# Altium integrated library NXP_60_26022015.IntLib: 1306 symbols (part 4 of 28)
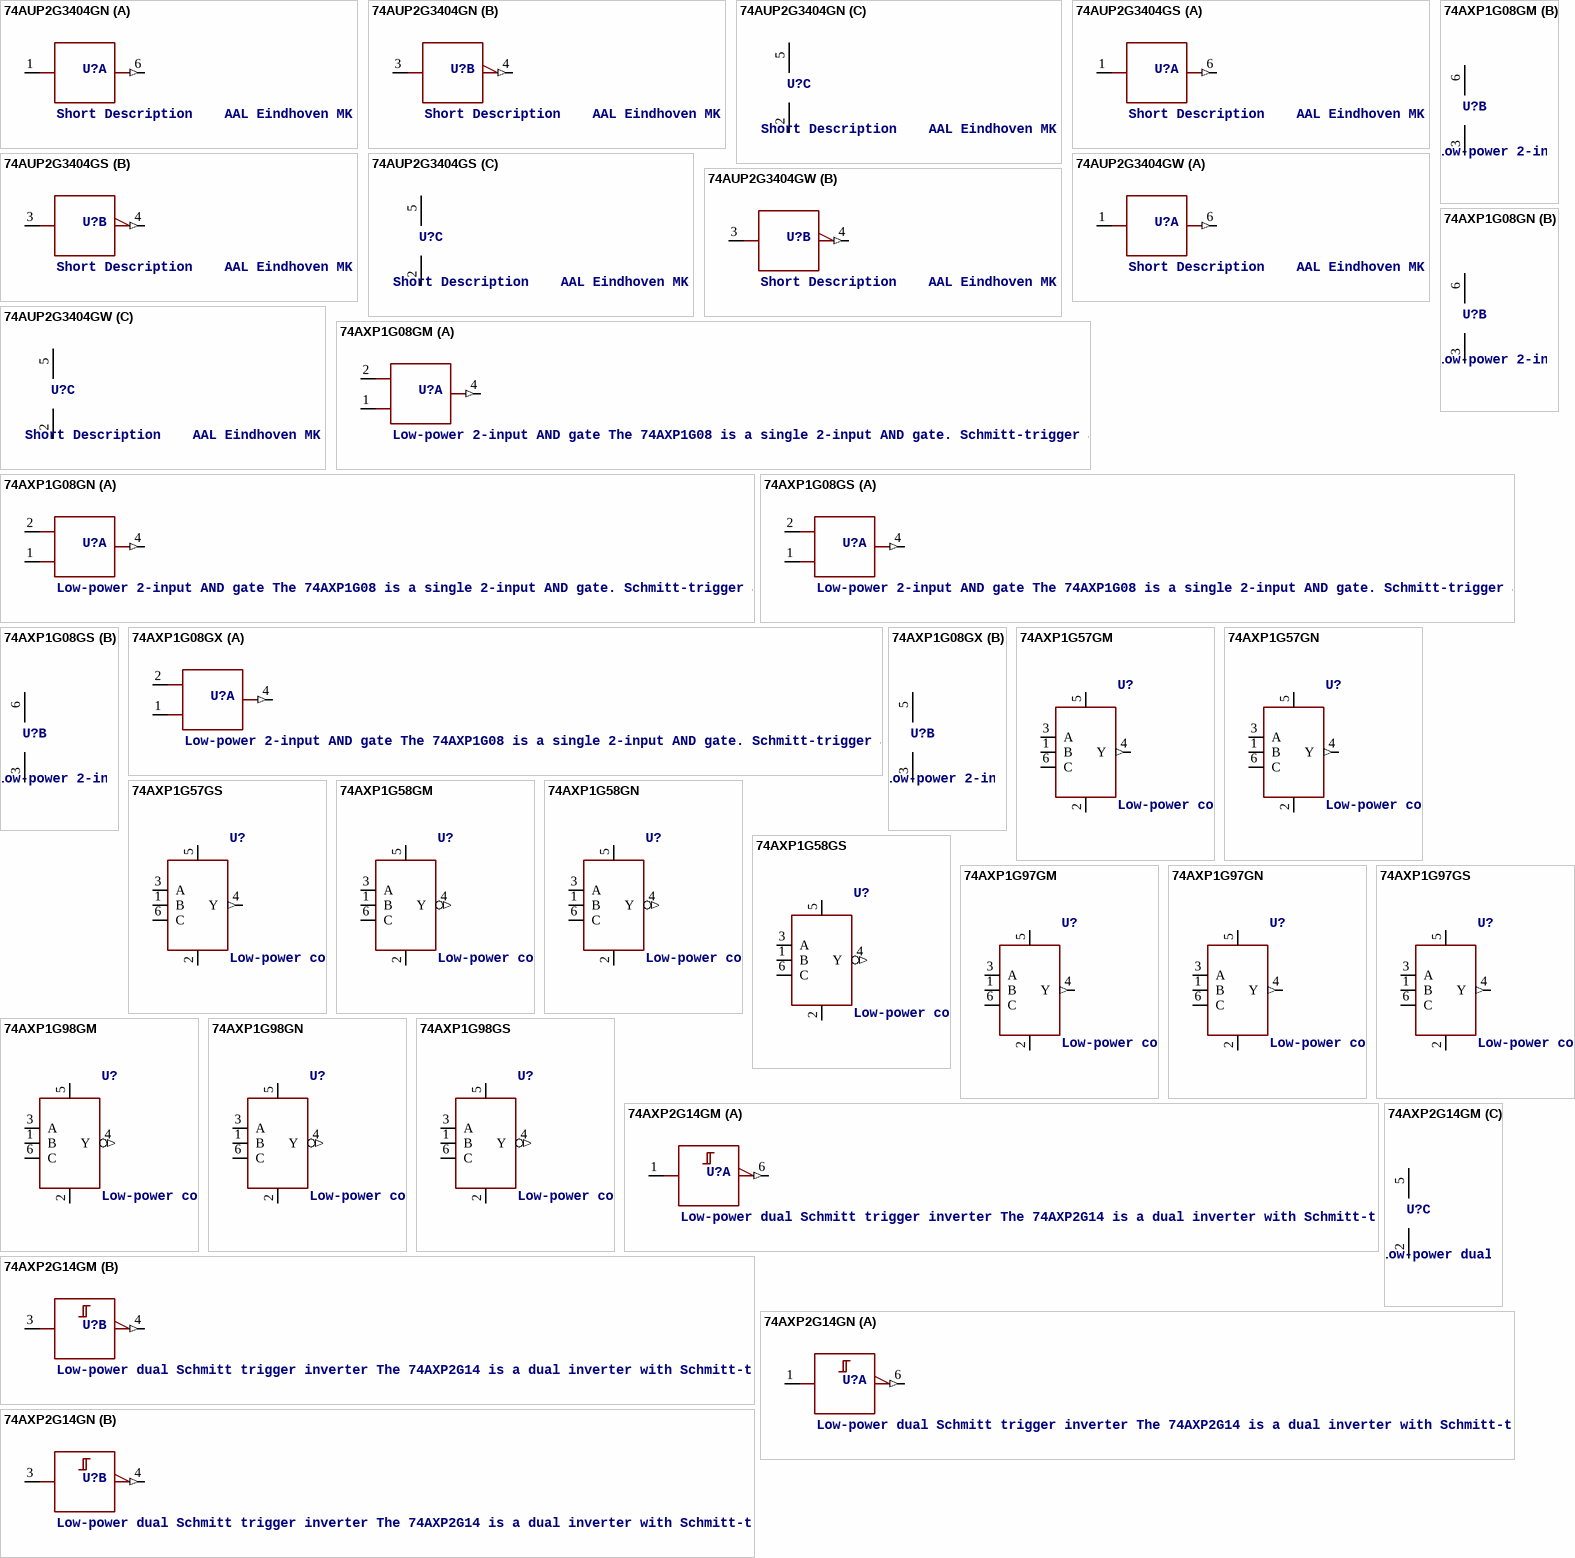
[diagram p188: symbols 74AUP2G3404GN to 74AXP2G14GN]

## 74AXP1G57GS
designator U?, comment Low-power configurable gate with voltage-level translator The 74AXP1G57 is a configurable multiple function gate with Schmitt-trigger inputs. The device can be configured as any of the following logic functions AND, OR, NAND, NOR, XNOR, inverter and buffer. All inputs can be connected directly to VCC or GND. This device ensures very low static and dynamic power consumption across the entire VCC range from 0.7 V to 2.75 V. This device is fully specified for partial power down applications using IOFF. The IOFF circuitry disables the output, preventing the potentially damaging backflow current through the device when it is powered down.   AAL Eindhoven MK
footprint SOT1202
pins: 1 B, 2 GND (power), 3 A, 4 Y (out), 5 VCC (power), 6 C

## 74AXP1G58GM
designator U?, comment Low-power configurable multiple function gate The 74AXP1G58 is a configurable multiple function gate with Schmitt-trigger inputs. The device can be configured as any of the following logic functions AND, OR, NAND, NOR, XOR, inverter and buffer. All inputs can be connected directly to VCC or GND. This device ensures very low static and dynamic power consumption across the entire VCC range from 0.7 V to 2.75 V. This device is fully specified for partial power-down applications using IOFF. The IOFF circuitry disables the output, preventing the potentially damaging backflow current through the device when it is powered down.   AAL Eindhoven MK
12NC: 9353 015 99125
footprint SOT886
pins: 1 B, 2 GND (power), 3 A, 4 Y (out), 5 VCC (power), 6 C

## 74AXP1G58GN
designator U?, comment Low-power configurable multiple function gate The 74AXP1G58 is a configurable multiple function gate with Schmitt-trigger inputs. The device can be configured as any of the following logic functions AND, OR, NAND, NOR, XOR, inverter and buffer. All inputs can be connected directly to VCC or GND. This device ensures very low static and dynamic power consumption across the entire VCC range from 0.7 V to 2.75 V. This device is fully specified for partial power-down applications using IOFF. The IOFF circuitry disables the output, preventing the potentially damaging backflow current through the device when it is powered down.   AAL Eindhoven MK
I2C: 9353 016 01125
footprint SOT1115
pins: 1 B, 2 GND (power), 3 A, 4 Y (out), 5 VCC (power), 6 C

## 74AXP1G58GS
designator U?, comment Low-power configurable multiple function gate The 74AXP1G58 is a configurable multiple function gate with Schmitt-trigger inputs. The device can be configured as any of the following logic functions AND, OR, NAND, NOR, XOR, inverter and buffer. All inputs can be connected directly to VCC or GND. This device ensures very low static and dynamic power consumption across the entire VCC range from 0.7 V to 2.75 V. This device is fully specified for partial power-down applications using IOFF. The IOFF circuitry disables the output, preventing the potentially damaging backflow current through the device when it is powered down.   AAL Eindhoven MK
12NC: 9353 016 02125
footprint SOT1202
pins: 1 B, 2 GND (power), 3 A, 4 Y (out), 5 VCC (power), 6 C

## 74AXP1G97GM
designator U?, comment Low-power configurable gate The 74AXP1G97 is a configurable multiple function gate with Schmitt-trigger inputs. The device can be configured as any of the following logic functions MUX, AND, OR, NAND, NOR, inverter and buffer. All inputs can be connected directly to VCC or GND. This device ensures very low static and dynamic power consumption across the entire VCC range from 0.7 V to 2.75 V. This device is fully specified for partial power down applications using IOFF. The IOFF circuitry disables the output, preventing the potentially damaging backflow current through the device when it is powered down.   AAL Eindhoven MK
12NC: 9353 016 03125
footprint SOT886
pins: 1 B, 2 GND (power), 3 A, 4 Y (out), 5 VCC (power), 6 C

## 74AXP1G97GN
designator U?, comment Low-power configurable gate The 74AXP1G97 is a configurable multiple function gate with Schmitt-trigger inputs. The device can be configured as any of the following logic functions MUX, AND, OR, NAND, NOR, inverter and buffer. All inputs can be connected directly to VCC or GND. This device ensures very low static and dynamic power consumption across the entire VCC range from 0.7 V to 2.75 V. This device is fully specified for partial power down applications using IOFF. The IOFF circuitry disables the output, preventing the potentially damaging backflow current through the device when it is powered down.   AAL Eindhoven MK
I2C: 9353 016 04125
footprint SOT1115
pins: 1 B, 2 GND (power), 3 A, 4 Y (out), 5 VCC (power), 6 C

## 74AXP1G97GS
designator U?, comment Low-power configurable gate The 74AXP1G97 is a configurable multiple function gate with Schmitt-trigger inputs. The device can be configured as any of the following logic functions MUX, AND, OR, NAND, NOR, inverter and buffer. All inputs can be connected directly to VCC or GND. This device ensures very low static and dynamic power consumption across the entire VCC range from 0.7 V to 2.75 V. This device is fully specified for partial power down applications using IOFF. The IOFF circuitry disables the output, preventing the potentially damaging backflow current through the device when it is powered down.   AAL Eindhoven MK
12NC: 9353 016 05125
footprint SOT1202
pins: 1 B, 2 GND (power), 3 A, 4 Y (out), 5 VCC (power), 6 C

## 74AXP1G98GM
designator U?, comment Low-power configurable multiple function gate The 74AXP1G98 is a configurable multiple function gate with Schmitt-trigger inputs. The device can be configured as any of the following logic functions MUX, AND, OR, NAND, NOR, inverter and buffer. All inputs can be connected directly to VCC or GND. This device ensures very low static and dynamic power consumption across the entire VCC range from 0.7 V to 2.75 V. This device is fully specified for partial power down applications using IOFF. The IOFF circuitry disables the output, preventing the potentially damaging backflow current through the device when it is powered down.   AAL Eindhoven MK
12NC: 9353 015 99125
footprint SOT886
pins: 1 B, 2 GND (power), 3 A, 4 Y (out), 5 VCC (power), 6 C

## 74AXP1G98GN
designator U?, comment Low-power configurable multiple function gate The 74AXP1G98 is a configurable multiple function gate with Schmitt-trigger inputs. The device can be configured as any of the following logic functions MUX, AND, OR, NAND, NOR, inverter and buffer. All inputs can be connected directly to VCC or GND. This device ensures very low static and dynamic power consumption across the entire VCC range from 0.7 V to 2.75 V. This device is fully specified for partial power down applications using IOFF. The IOFF circuitry disables the output, preventing the potentially damaging backflow current through the device when it is powered down.   AAL Eindhoven MK
I2C: 9353 016 01125
footprint SOT1115
pins: 1 B, 2 GND (power), 3 A, 4 Y (out), 5 VCC (power), 6 C

## 74AXP1G98GS
designator U?, comment Low-power configurable multiple function gate The 74AXP1G98 is a configurable multiple function gate with Schmitt-trigger inputs. The device can be configured as any of the following logic functions MUX, AND, OR, NAND, NOR, inverter and buffer. All inputs can be connected directly to VCC or GND. This device ensures very low static and dynamic power consumption across the entire VCC range from 0.7 V to 2.75 V. This device is fully specified for partial power down applications using IOFF. The IOFF circuitry disables the output, preventing the potentially damaging backflow current through the device when it is powered down.   AAL Eindhoven MK
12NC: 9353 016 02125
footprint SOT1202
pins: 1 B, 2 GND (power), 3 A, 4 Y (out), 5 VCC (power), 6 C

## 74AXP2G14GM
designator U?, comment Low-power dual Schmitt trigger inverter The 74AXP2G14 is a dual inverter with Schmitt-trigger inputs. It transforms slowly changing input signals into sharply defined, jitter-free output signals. This device ensures very low static and dynamic power consumption across the entire VCC range from 0.7 V to 2.75 V. It is fully specified for partial power down applications using IOFF. The IOFF circuitry disables the output, preventing the potentially damaging backflow current through the device when it is powered down.   AAL Eindhoven MK
footprint SOT886
part A pins: 1 A, 6 Y (out)
part B pins: 3 A, 4 Y (out)
part C pins: 2 GND (power), 5 VCC (power)

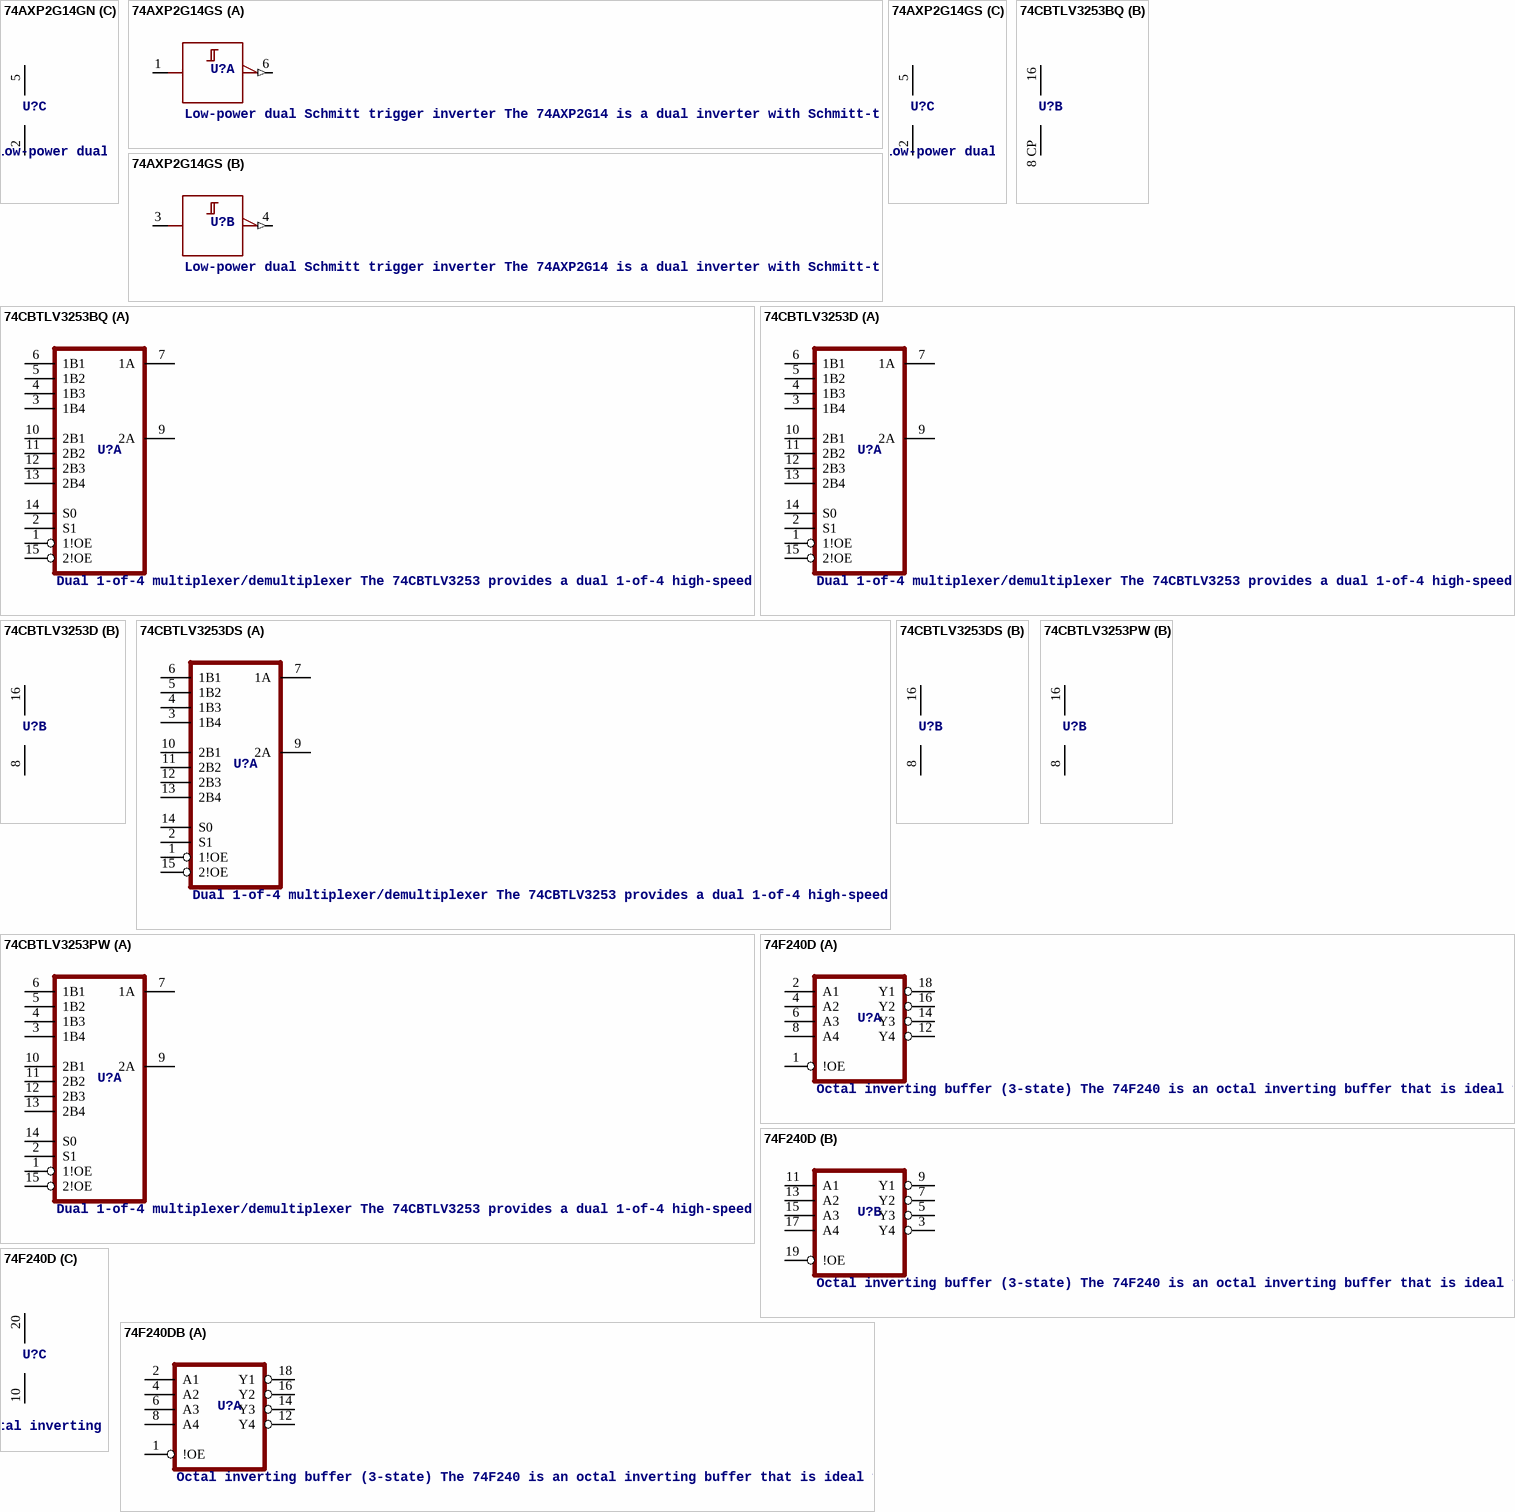
[diagram p15: symbols 74AXP2G14GN to 74F240DB]

## 74AXP2G14GN
designator U?, comment Low-power dual Schmitt trigger inverter The 74AXP2G14 is a dual inverter with Schmitt-trigger inputs. It transforms slowly changing input signals into sharply defined, jitter-free output signals. This device ensures very low static and dynamic power consumption across the entire VCC range from 0.7 V to 2.75 V. It is fully specified for partial power down applications using IOFF. The IOFF circuitry disables the output, preventing the potentially damaging backflow current through the device when it is powered down.   AAL Eindhoven MK
footprint SOT1115
part A pins: 1 A, 6 Y (out)
part B pins: 3 A, 4 Y (out)
part C pins: 2 GND (power), 5 VCC (power)

## 74AXP2G14GS
designator U?, comment Low-power dual Schmitt trigger inverter The 74AXP2G14 is a dual inverter with Schmitt-trigger inputs. It transforms slowly changing input signals into sharply defined, jitter-free output signals. This device ensures very low static and dynamic power consumption across the entire VCC range from 0.7 V to 2.75 V. It is fully specified for partial power down applications using IOFF. The IOFF circuitry disables the output, preventing the potentially damaging backflow current through the device when it is powered down.   AAL Eindhoven MK
footprint SOT1202
part A pins: 1 A, 6 Y (out)
part B pins: 3 A, 4 Y (out)
part C pins: 2 GND (power), 5 VCC (power)

## 74CBTLV3253BQ
designator U?, comment Dual 1-of-4 multiplexer/demultiplexer The 74CBTLV3253 provides a dual 1-of-4 high-speed multiplexer/demultiplexer with two common select inputs (S0, S1) and two output enable inputs (1OE, 2OE). The low ON resistance of the switch allows inputs to be connected to outputs without adding propagation delay or generating additional ground bounce noise. When pin nOE = LOW, one of the four switches is selected (low-impedance ON-state) with pins S0 and S1. When pin nOE = HIGH, all switches are in the high-impedance OFF-state, independent of pins S0 and S1. To ensure the high-impedance OFF-state during power-up or power-down, nOE should be tied to the VCC through a pull-up resistor. The minimum value of the resistor is determined by the current-sinking capability of the driver. Schmitt trigger action at control input makes the circuit tolerant to slower input rise and fall times across the entire VCC range from 2.3 V to 3.6 V. This device is fully specified for partial power-down applications using IOFF. The IOFF circuitry disables the output, preventing the damaging backflow current through the device when it is powered down.    AAL Eindhoven MK
footprint SOT763
part A pins: 1 1!OE, 2 S1, 3 1B4, 4 1B3, 5 1B2, 6 1B1, 7 1A (hiz), 9 2A (hiz), 10 2B1, 11 2B2, 12 2B3, 13 2B4, 14 S0, 15 2!OE
part B pins: 8 CP GND (power), 16 VCC (power)

## 74CBTLV3253D
designator U?, comment Dual 1-of-4 multiplexer/demultiplexer The 74CBTLV3253 provides a dual 1-of-4 high-speed multiplexer/demultiplexer with two common select inputs (S0, S1) and two output enable inputs (1OE, 2OE). The low ON resistance of the switch allows inputs to be connected to outputs without adding propagation delay or generating additional ground bounce noise. When pin nOE = LOW, one of the four switches is selected (low-impedance ON-state) with pins S0 and S1. When pin nOE = HIGH, all switches are in the high-impedance OFF-state, independent of pins S0 and S1. To ensure the high-impedance OFF-state during power-up or power-down, nOE should be tied to the VCC through a pull-up resistor. The minimum value of the resistor is determined by the current-sinking capability of the driver. Schmitt trigger action at control input makes the circuit tolerant to slower input rise and fall times across the entire VCC range from 2.3 V to 3.6 V. This device is fully specified for partial power-down applications using IOFF. The IOFF circuitry disables the output, preventing the damaging backflow current through the device when it is powered down.    AAL Eindhoven MK
footprint SOT109-1
part A pins: 1 1!OE, 2 S1, 3 1B4, 4 1B3, 5 1B2, 6 1B1, 7 1A (hiz), 9 2A (hiz), 10 2B1, 11 2B2, 12 2B3, 13 2B4, 14 S0, 15 2!OE
part B pins: 8 GND (power), 16 VCC (power)

## 74CBTLV3253DS
designator U?, comment Dual 1-of-4 multiplexer/demultiplexer The 74CBTLV3253 provides a dual 1-of-4 high-speed multiplexer/demultiplexer with two common select inputs (S0, S1) and two output enable inputs (1OE, 2OE). The low ON resistance of the switch allows inputs to be connected to outputs without adding propagation delay or generating additional ground bounce noise. When pin nOE = LOW, one of the four switches is selected (low-impedance ON-state) with pins S0 and S1. When pin nOE = HIGH, all switches are in the high-impedance OFF-state, independent of pins S0 and S1. To ensure the high-impedance OFF-state during power-up or power-down, nOE should be tied to the VCC through a pull-up resistor. The minimum value of the resistor is determined by the current-sinking capability of the driver. Schmitt trigger action at control input makes the circuit tolerant to slower input rise and fall times across the entire VCC range from 2.3 V to 3.6 V. This device is fully specified for partial power-down applications using IOFF. The IOFF circuitry disables the output, preventing the damaging backflow current through the device when it is powered down.    AAL Eindhoven MK
footprint SOT519
part A pins: 1 1!OE, 2 S1, 3 1B4, 4 1B3, 5 1B2, 6 1B1, 7 1A (hiz), 9 2A (hiz), 10 2B1, 11 2B2, 12 2B3, 13 2B4, 14 S0, 15 2!OE
part B pins: 8 GND (power), 16 VCC (power)

## 74CBTLV3253PW
designator U?, comment Dual 1-of-4 multiplexer/demultiplexer The 74CBTLV3253 provides a dual 1-of-4 high-speed multiplexer/demultiplexer with two common select inputs (S0, S1) and two output enable inputs (1OE, 2OE). The low ON resistance of the switch allows inputs to be connected to outputs without adding propagation delay or generating additional ground bounce noise. When pin nOE = LOW, one of the four switches is selected (low-impedance ON-state) with pins S0 and S1. When pin nOE = HIGH, all switches are in the high-impedance OFF-state, independent of pins S0 and S1. To ensure the high-impedance OFF-state during power-up or power-down, nOE should be tied to the VCC through a pull-up resistor. The minimum value of the resistor is determined by the current-sinking capability of the driver. Schmitt trigger action at control input makes the circuit tolerant to slower input rise and fall times across the entire VCC range from 2.3 V to 3.6 V. This device is fully specified for partial power-down applications using IOFF. The IOFF circuitry disables the output, preventing the damaging backflow current through the device when it is powered down.    AAL Eindhoven MK
footprint SOT403-1
part A pins: 1 1!OE, 2 S1, 3 1B4, 4 1B3, 5 1B2, 6 1B1, 7 1A (hiz), 9 2A (hiz), 10 2B1, 11 2B2, 12 2B3, 13 2B4, 14 S0, 15 2!OE
part B pins: 8 GND (power), 16 VCC (power)

## 74F240D
designator U?, comment Octal inverting buffer (3-state) The 74F240 is an octal inverting buffer that is ideal for driving bus lines of buffer memory address registers. The outputs are all capable of sinking 64 mA and sourcing up to 15 mA. The device features two output enables, each controlling four of the 3-state outputs.    AAL Eindhoven MK
footprint SOT163-1
part A pins: 1 !OE, 2 A1, 4 A2, 6 A3, 8 A4, 12 Y4 (hiz), 14 Y3 (hiz), 16 Y2 (hiz), 18 Y1 (hiz)
part B pins: 3 Y4 (hiz), 5 Y3 (hiz), 7 Y2 (hiz), 9 Y1 (hiz), 11 A1, 13 A2, 15 A3, 17 A4, 19 !OE
part C pins: 10 GND (power), 20 VCC (power)

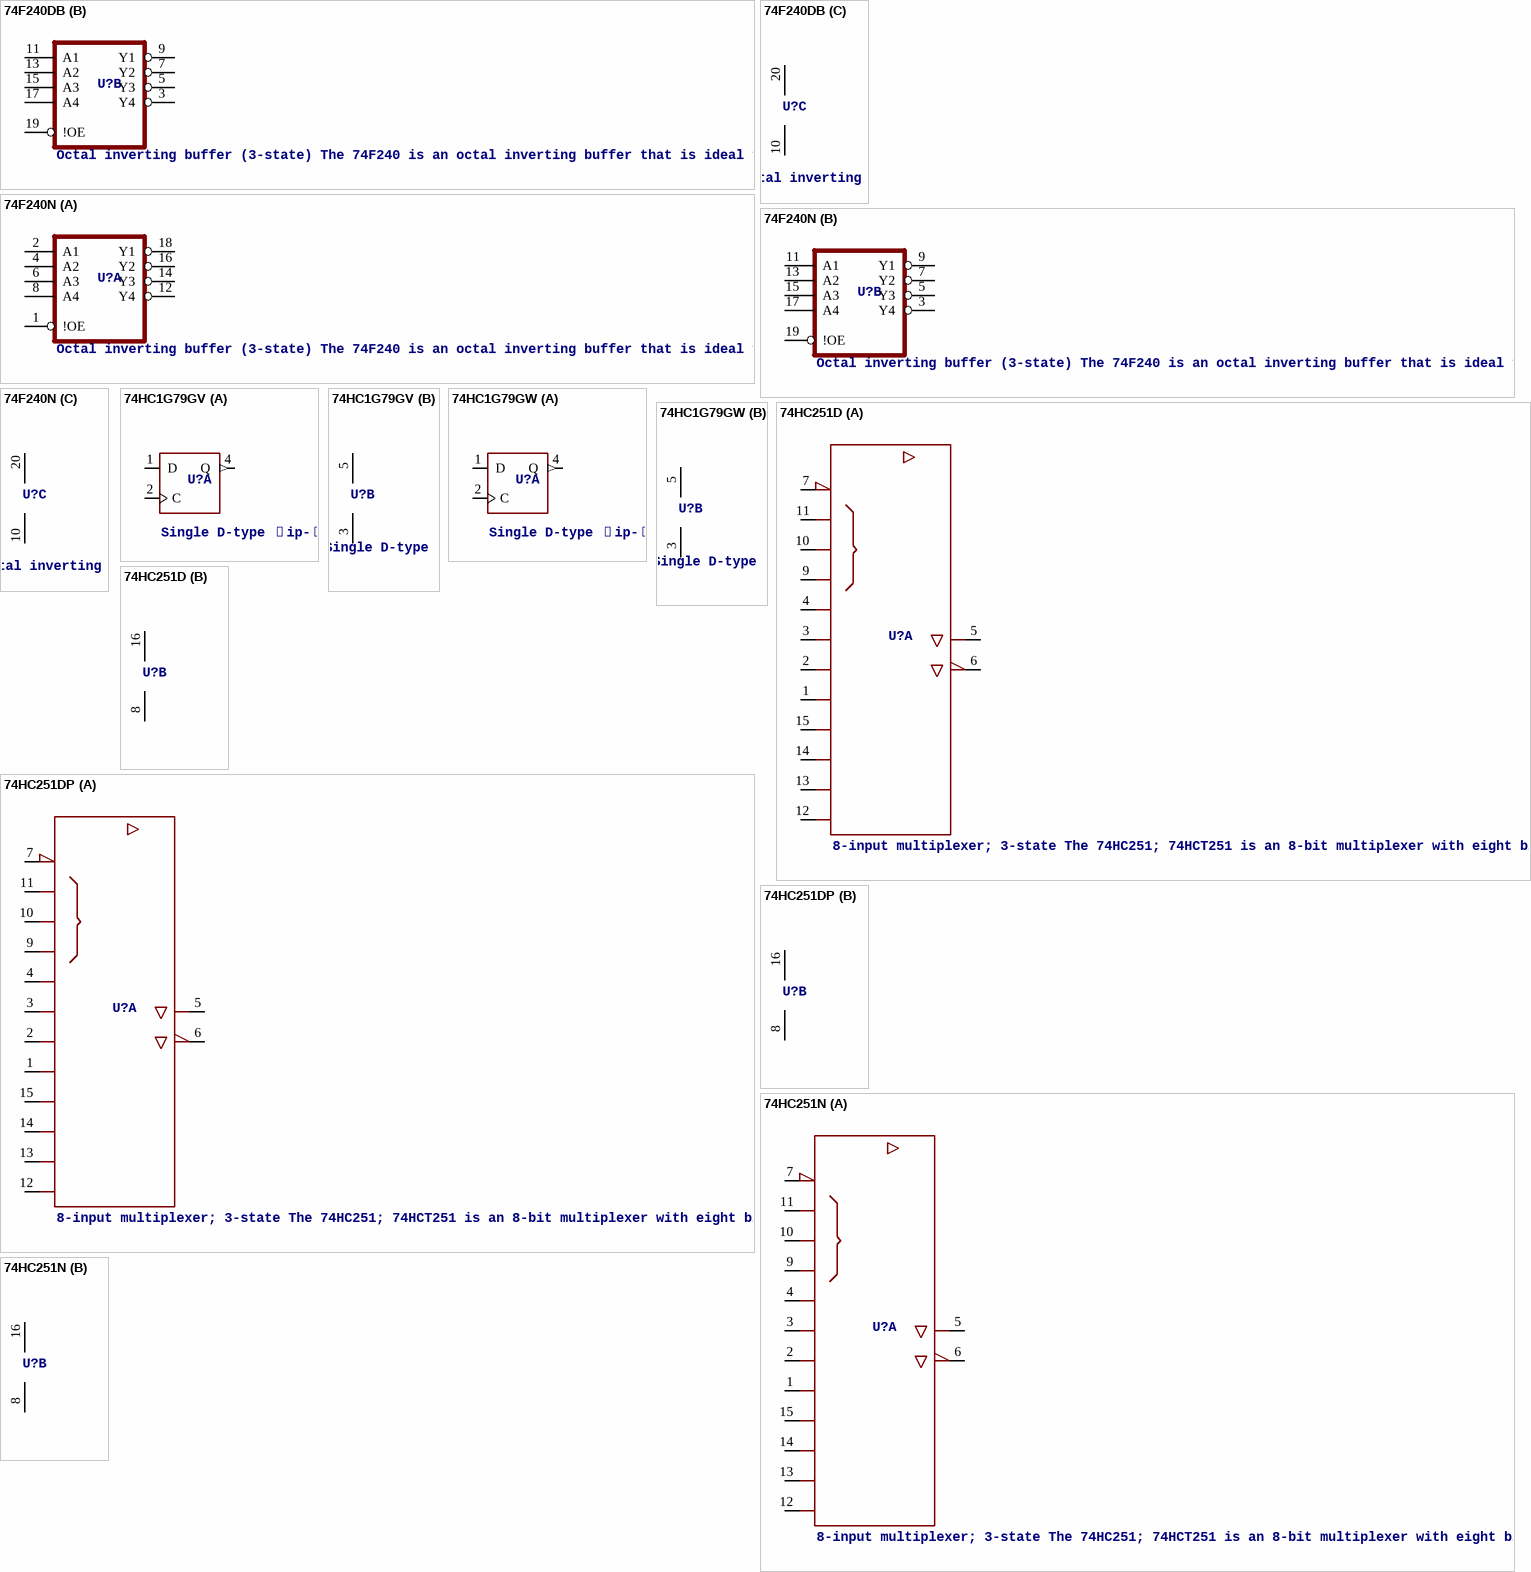
[diagram p16: symbols 74F240DB to 74HC251N]

## 74F240DB
designator U?, comment Octal inverting buffer (3-state) The 74F240 is an octal inverting buffer that is ideal for driving bus lines of buffer memory address registers. The outputs are all capable of sinking 64 mA and sourcing up to 15 mA. The device features two output enables, each controlling four of the 3-state outputs.    AAL Eindhoven MK
footprint SOT339
part A pins: 1 !OE, 2 A1, 4 A2, 6 A3, 8 A4, 12 Y4 (hiz), 14 Y3 (hiz), 16 Y2 (hiz), 18 Y1 (hiz)
part B pins: 3 Y4 (hiz), 5 Y3 (hiz), 7 Y2 (hiz), 9 Y1 (hiz), 11 A1, 13 A2, 15 A3, 17 A4, 19 !OE
part C pins: 10 GND (power), 20 VCC (power)

## 74F240N
designator U?, comment Octal inverting buffer (3-state) The 74F240 is an octal inverting buffer that is ideal for driving bus lines of buffer memory address registers. The outputs are all capable of sinking 64 mA and sourcing up to 15 mA. The device features two output enables, each controlling four of the 3-state outputs.    AAL Eindhoven MK
footprint SOT146
part A pins: 1 !OE, 2 A1, 4 A2, 6 A3, 8 A4, 12 Y4 (hiz), 14 Y3 (hiz), 16 Y2 (hiz), 18 Y1 (hiz)
part B pins: 3 Y4 (hiz), 5 Y3 (hiz), 7 Y2 (hiz), 9 Y1 (hiz), 11 A1, 13 A2, 15 A3, 17 A4, 19 !OE
part C pins: 10 GND (power), 20 VCC (power)

## 74HC1G79GV
designator U?, comment Single D-type ﬂip-ﬂop; positive-edge trigger 74AHC1G79 and 74AHCT1G79 are high-speed Si-gate CMOS devices. They provide a single positive-edge triggered D-type ﬂip-ﬂop. Information on the data input is transferred to the Q output on the LOW-to-HIGH transition of the clock pulse. The D input must be stable one set-up time prior to the LOW-to-HIGH clock transition for predictable operation. The AHC device has CMOS input switching levels and supply voltage range 2 V to 5.5 V. The AHCT device has TTL input switching levels and supply voltage range 4.5 V to 5.5 V    AAL Eindhoven MK
footprint SOT753
part A pins: 1 D, 2 C, 4 Q (out)
part B pins: 3 GND (power), 5 VCC (power)

## 74HC1G79GW
designator U?, comment Single D-type ﬂip-ﬂop; positive-edge trigger 74AHC1G79 and 74AHCT1G79 are high-speed Si-gate CMOS devices. They provide a single positive-edge triggered D-type ﬂip-ﬂop. Information on the data input is transferred to the Q output on the LOW-to-HIGH transition of the clock pulse. The D input must be stable one set-up time prior to the LOW-to-HIGH clock transition for predictable operation. The AHC device has CMOS input switching levels and supply voltage range 2 V to 5.5 V. The AHCT device has TTL input switching levels and supply voltage range 4.5 V to 5.5 V    AAL Eindhoven MK
footprint SOT353-1
part A pins: 1 D, 2 C, 4 Q (out)
part B pins: 3 GND (power), 5 VCC (power)

## 74HC251D
designator U?, comment 8-input multiplexer; 3-state The 74HC251; 74HCT251 is an 8-bit multiplexer with eight binary inputs (I0 to I7), three select inputs (S0 to S2) and an output enable input (OE). The select inputs select one of the eight binary inputs and route it to the complementary outputs (Y and Y). A HIGH on OE causes the outputs to assume a high-impedance OFF-state. Inputs include clamp diodes that enable the use of current limiting resistors to interface inputs to voltages in excess of VCC.    AAL Eindhoven MK
footprint SOT109-1
part A pins: 1 D3, 2 D2, 3 D1, 4 D0, 5 Y (hiz), 6 W (hiz), 7 !G, 9 C, 10 B, 11 A, 12 D7, 13 D6, 14 D5, 15 D4
part B pins: 8 GND (power), 16 VCC (power)

## 74HC251DP
designator U?, comment 8-input multiplexer; 3-state The 74HC251; 74HCT251 is an 8-bit multiplexer with eight binary inputs (I0 to I7), three select inputs (S0 to S2) and an output enable input (OE). The select inputs select one of the eight binary inputs and route it to the complementary outputs (Y and Y). A HIGH on OE causes the outputs to assume a high-impedance OFF-state. Inputs include clamp diodes that enable the use of current limiting resistors to interface inputs to voltages in excess of VCC.    AAL Eindhoven MK
footprint SOT338
part A pins: 1 D3, 2 D2, 3 D1, 4 D0, 5 Y (hiz), 6 W (hiz), 7 !G, 9 C, 10 B, 11 A, 12 D7, 13 D6, 14 D5, 15 D4
part B pins: 8 GND (power), 16 VCC (power)

## 74HC251N
designator U?, comment 8-input multiplexer; 3-state The 74HC251; 74HCT251 is an 8-bit multiplexer with eight binary inputs (I0 to I7), three select inputs (S0 to S2) and an output enable input (OE). The select inputs select one of the eight binary inputs and route it to the complementary outputs (Y and Y). A HIGH on OE causes the outputs to assume a high-impedance OFF-state. Inputs include clamp diodes that enable the use of current limiting resistors to interface inputs to voltages in excess of VCC.    AAL Eindhoven MK
footprint SOT38
part A pins: 1 D3, 2 D2, 3 D1, 4 D0, 5 Y (hiz), 6 W (hiz), 7 !G, 9 C, 10 B, 11 A, 12 D7, 13 D6, 14 D5, 15 D4
part B pins: 8 GND (power), 16 VCC (power)

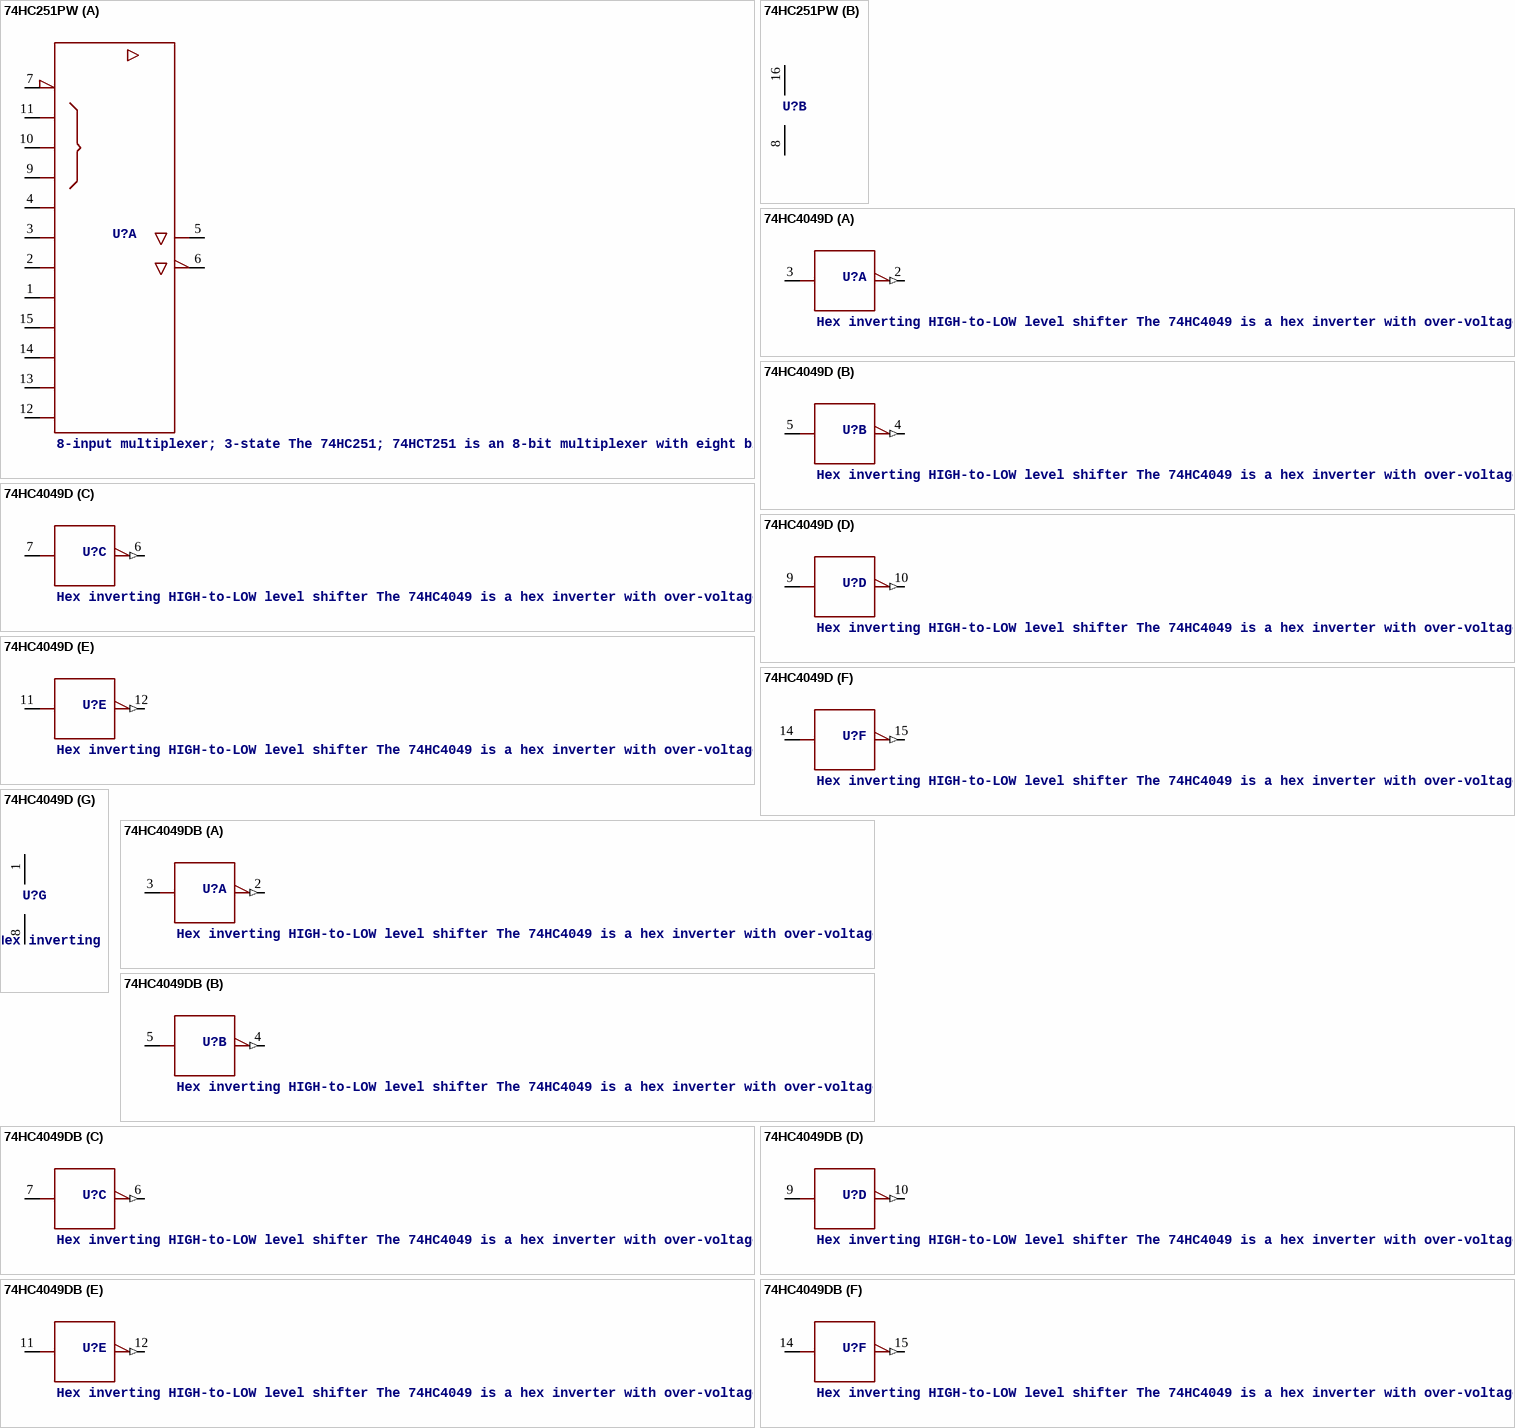
[diagram p17: symbols 74HC251PW to 74HC4049DB]

## 74HC251PW
designator U?, comment 8-input multiplexer; 3-state The 74HC251; 74HCT251 is an 8-bit multiplexer with eight binary inputs (I0 to I7), three select inputs (S0 to S2) and an output enable input (OE). The select inputs select one of the eight binary inputs and route it to the complementary outputs (Y and Y). A HIGH on OE causes the outputs to assume a high-impedance OFF-state. Inputs include clamp diodes that enable the use of current limiting resistors to interface inputs to voltages in excess of VCC.    AAL Eindhoven MK
footprint SOT403-1
part A pins: 1 D3, 2 D2, 3 D1, 4 D0, 5 Y (hiz), 6 W (hiz), 7 !G, 9 C, 10 B, 11 A, 12 D7, 13 D6, 14 D5, 15 D4
part B pins: 8 GND (power), 16 VCC (power)

## 74HC4049D
designator U?, comment Hex inverting HIGH-to-LOW level shifter The 74HC4049 is a hex inverter with over-voltage tolerant inputs. Inputs are overvoltage tolerant to 15 V. This enables the device to be used in HIGH-to-LOW level shifting applications.    AAL Eindhoven MK
footprint SOT109-1
part A pins: 2 Y (out), 3 A
part B pins: 4 Y (out), 5 A
part C pins: 6 Y (out), 7 A
part D pins: 9 A, 10 Y (out)
part E pins: 11 A, 12 Y (out)
part F pins: 14 A, 15 Y (out)
part G pins: 1 VCC (power), 8 GND (power)

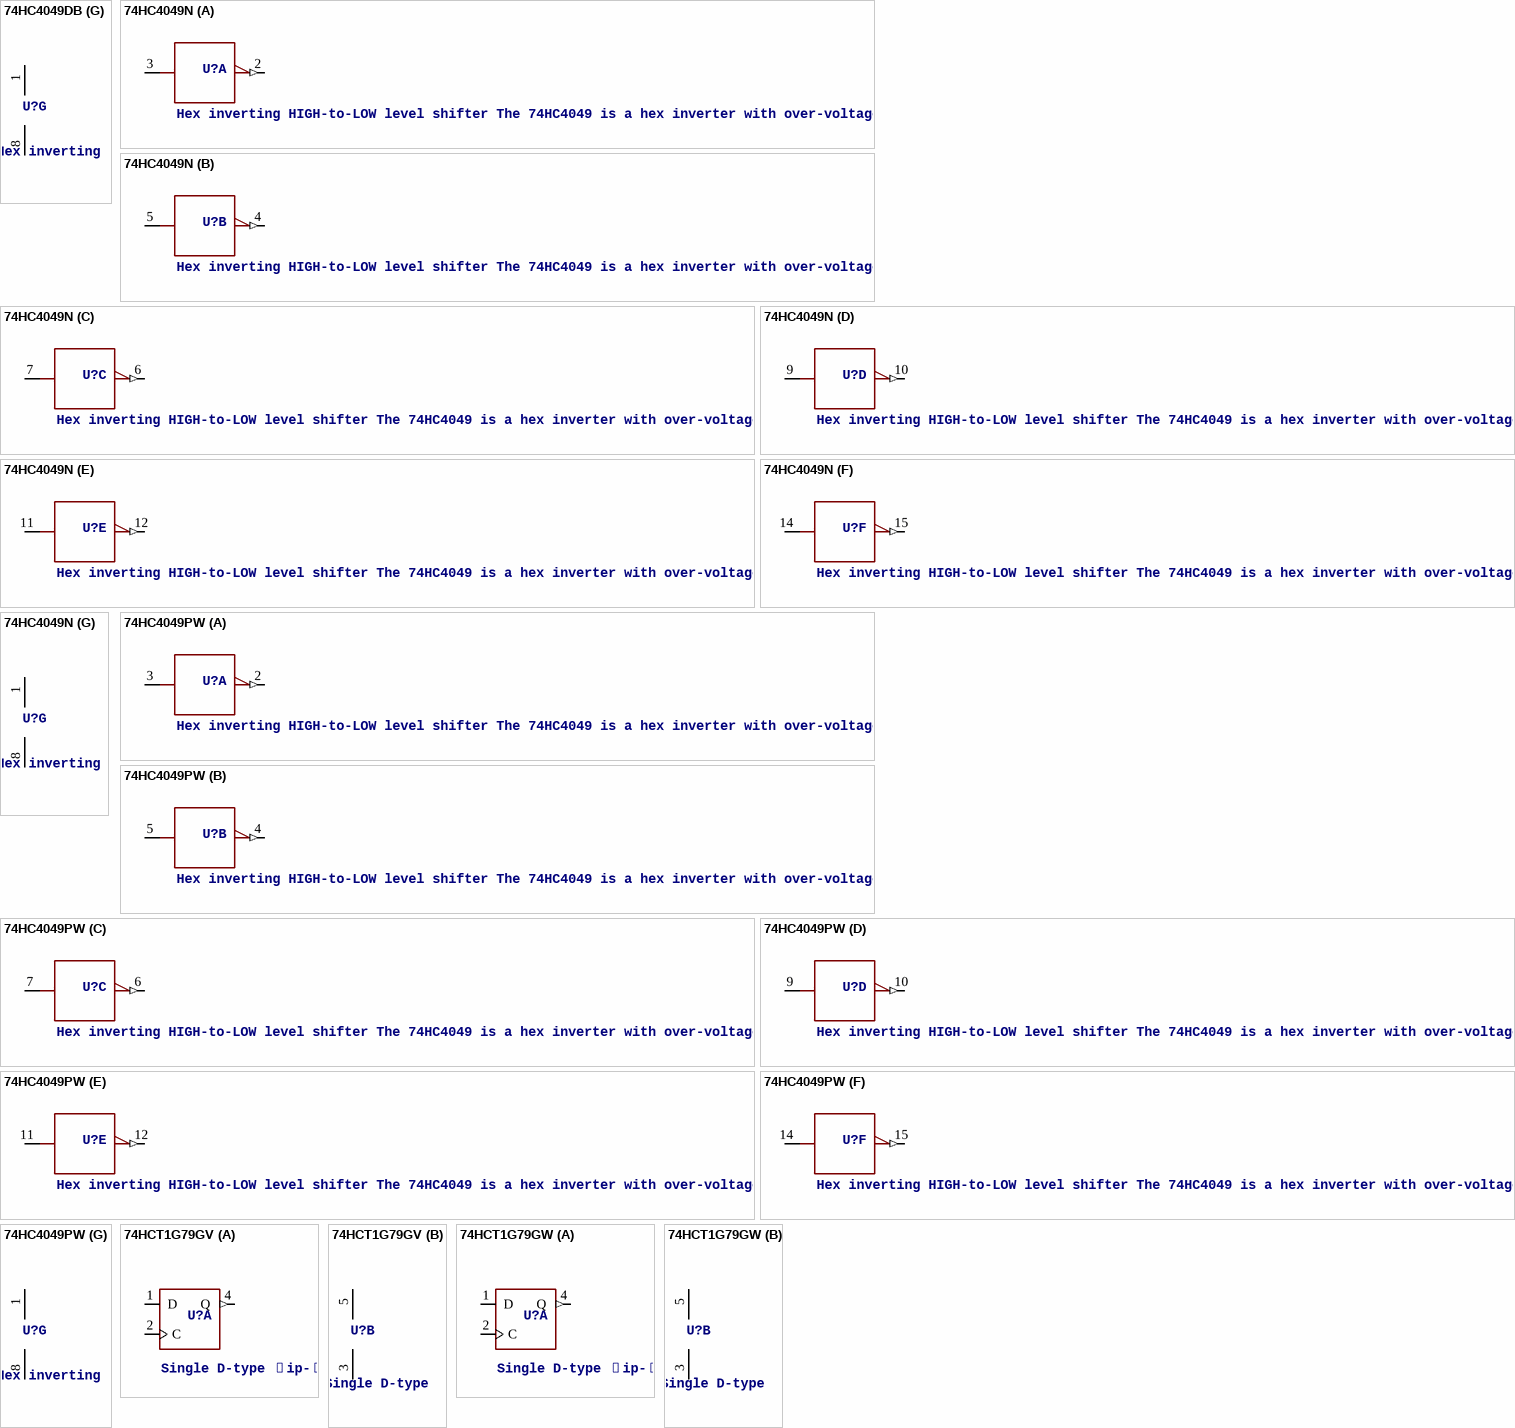
[diagram p18: symbols 74HC4049DB to 74HCT1G79GW]

## 74HC4049DB
designator U?, comment Hex inverting HIGH-to-LOW level shifter The 74HC4049 is a hex inverter with over-voltage tolerant inputs. Inputs are overvoltage tolerant to 15 V. This enables the device to be used in HIGH-to-LOW level shifting applications.    AAL Eindhoven MK
footprint SOT338
part A pins: 2 Y (out), 3 A
part B pins: 4 Y (out), 5 A
part C pins: 6 Y (out), 7 A
part D pins: 9 A, 10 Y (out)
part E pins: 11 A, 12 Y (out)
part F pins: 14 A, 15 Y (out)
part G pins: 1 VCC (power), 8 GND (power)

## 74HC4049N
designator U?, comment Hex inverting HIGH-to-LOW level shifter The 74HC4049 is a hex inverter with over-voltage tolerant inputs. Inputs are overvoltage tolerant to 15 V. This enables the device to be used in HIGH-to-LOW level shifting applications.    AAL Eindhoven MK
footprint SOT38
part A pins: 2 Y (out), 3 A
part B pins: 4 Y (out), 5 A
part C pins: 6 Y (out), 7 A
part D pins: 9 A, 10 Y (out)
part E pins: 11 A, 12 Y (out)
part F pins: 14 A, 15 Y (out)
part G pins: 1 VCC (power), 8 GND (power)

## 74HC4049PW
designator U?, comment Hex inverting HIGH-to-LOW level shifter The 74HC4049 is a hex inverter with over-voltage tolerant inputs. Inputs are overvoltage tolerant to 15 V. This enables the device to be used in HIGH-to-LOW level shifting applications.    AAL Eindhoven MK
footprint SOT403-1
part A pins: 2 Y (out), 3 A
part B pins: 4 Y (out), 5 A
part C pins: 6 Y (out), 7 A
part D pins: 9 A, 10 Y (out)
part E pins: 11 A, 12 Y (out)
part F pins: 14 A, 15 Y (out)
part G pins: 1 VCC (power), 8 GND (power)

## 74HCT1G79GV
designator U?, comment Single D-type ﬂip-ﬂop; positive-edge trigger 74AHC1G79 and 74AHCT1G79 are high-speed Si-gate CMOS devices. They provide a single positive-edge triggered D-type ﬂip-ﬂop. Information on the data input is transferred to the Q output on the LOW-to-HIGH transition of the clock pulse. The D input must be stable one set-up time prior to the LOW-to-HIGH clock transition for predictable operation. The AHC device has CMOS input switching levels and supply voltage range 2 V to 5.5 V. The AHCT device has TTL input switching levels and supply voltage range 4.5 V to 5.5 V    AAL Eindhoven MK
footprint SOT753
part A pins: 1 D, 2 C, 4 Q (out)
part B pins: 3 GND (power), 5 VCC (power)

## 74HCT1G79GW
designator U?, comment Single D-type ﬂip-ﬂop; positive-edge trigger 74AHC1G79 and 74AHCT1G79 are high-speed Si-gate CMOS devices. They provide a single positive-edge triggered D-type ﬂip-ﬂop. Information on the data input is transferred to the Q output on the LOW-to-HIGH transition of the clock pulse. The D input must be stable one set-up time prior to the LOW-to-HIGH clock transition for predictable operation. The AHC device has CMOS input switching levels and supply voltage range 2 V to 5.5 V. The AHCT device has TTL input switching levels and supply voltage range 4.5 V to 5.5 V    AAL Eindhoven MK
footprint SOT353-1
part A pins: 1 D, 2 C, 4 Q (out)
part B pins: 3 GND (power), 5 VCC (power)

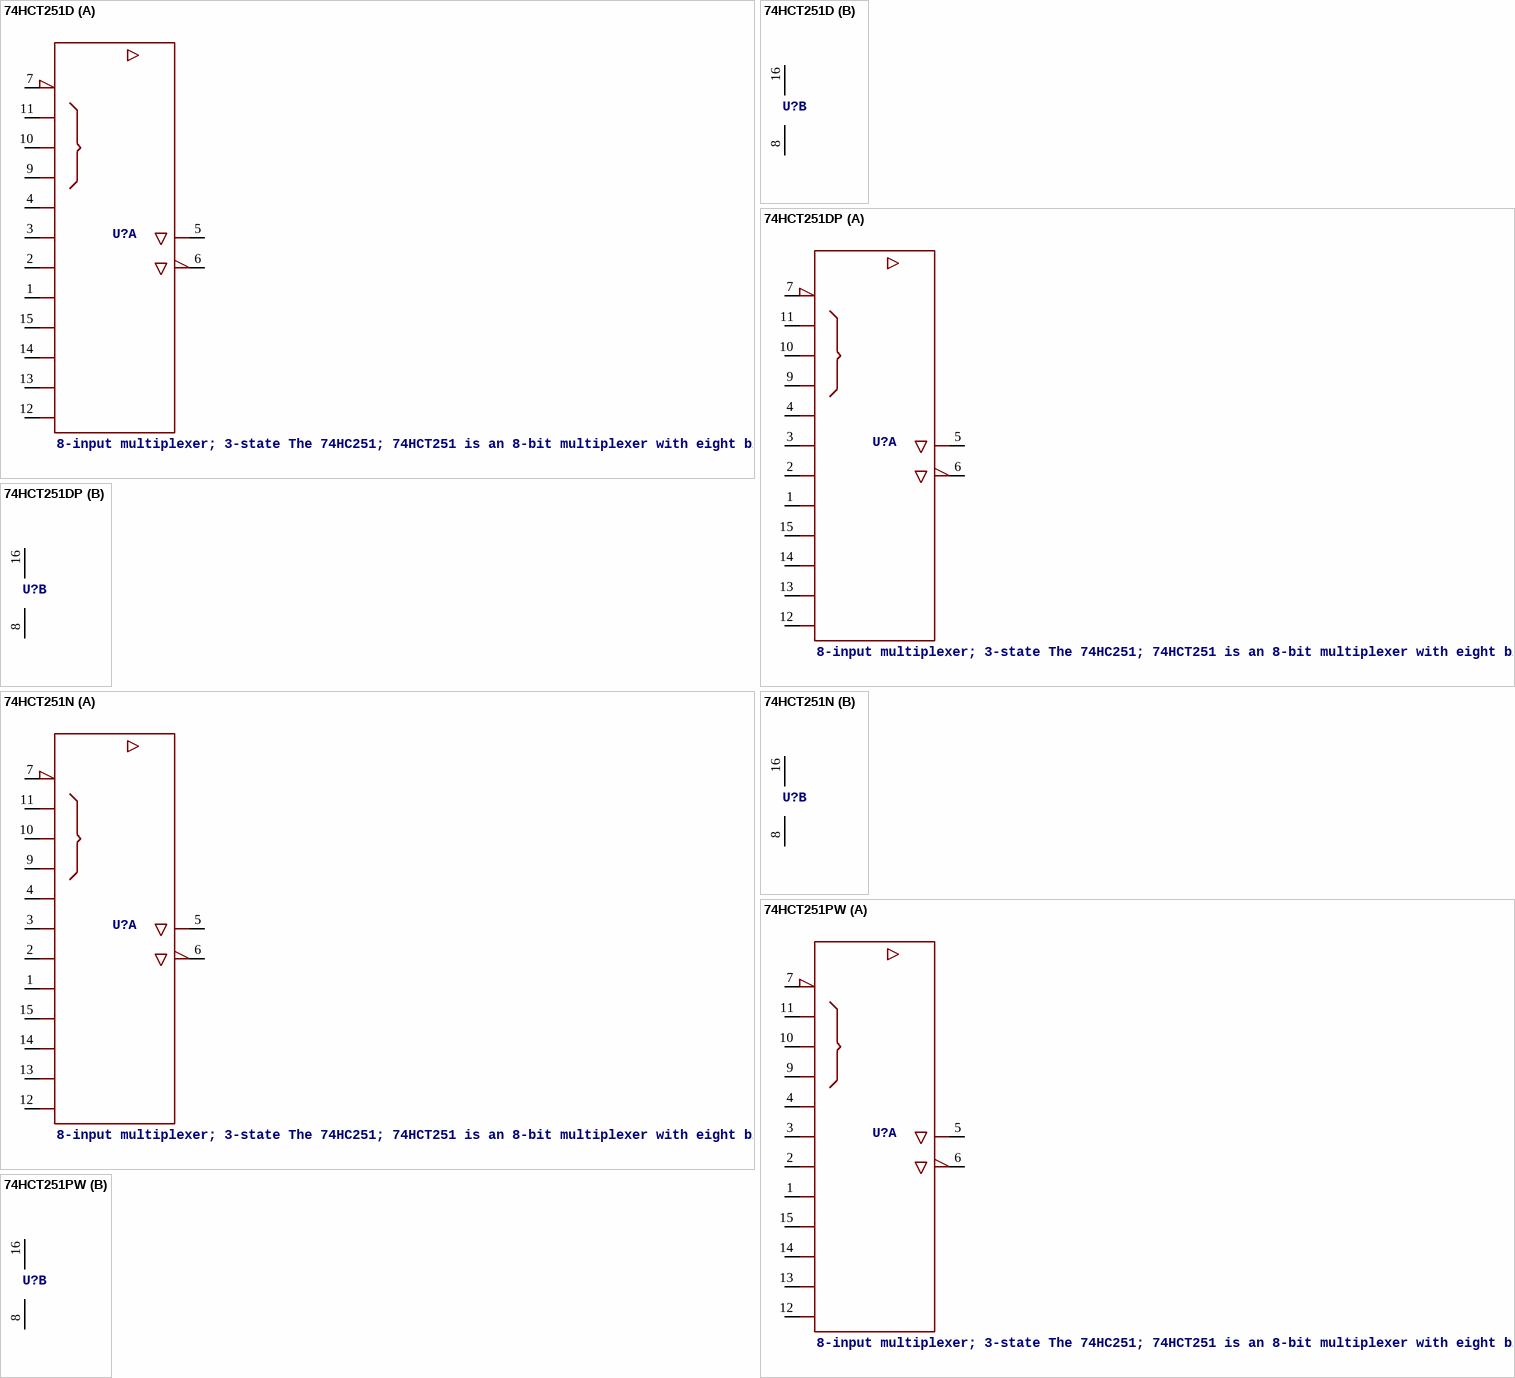
[diagram p19: symbols 74HCT251D to 74HCT251PW]

## 74HCT251D
designator U?, comment 8-input multiplexer; 3-state The 74HC251; 74HCT251 is an 8-bit multiplexer with eight binary inputs (I0 to I7), three select inputs (S0 to S2) and an output enable input (OE). The select inputs select one of the eight binary inputs and route it to the complementary outputs (Y and Y). A HIGH on OE causes the outputs to assume a high-impedance OFF-state. Inputs include clamp diodes that enable the use of current limiting resistors to interface inputs to voltages in excess of VCC.    AAL Eindhoven MK
footprint SOT109-1
part A pins: 1 D3, 2 D2, 3 D1, 4 D0, 5 Y (hiz), 6 W (hiz), 7 !G, 9 C, 10 B, 11 A, 12 D7, 13 D6, 14 D5, 15 D4
part B pins: 8 GND (power), 16 VCC (power)

## 74HCT251DP
designator U?, comment 8-input multiplexer; 3-state The 74HC251; 74HCT251 is an 8-bit multiplexer with eight binary inputs (I0 to I7), three select inputs (S0 to S2) and an output enable input (OE). The select inputs select one of the eight binary inputs and route it to the complementary outputs (Y and Y). A HIGH on OE causes the outputs to assume a high-impedance OFF-state. Inputs include clamp diodes that enable the use of current limiting resistors to interface inputs to voltages in excess of VCC.    AAL Eindhoven MK
footprint SOT338
part A pins: 1 D3, 2 D2, 3 D1, 4 D0, 5 Y (hiz), 6 W (hiz), 7 !G, 9 C, 10 B, 11 A, 12 D7, 13 D6, 14 D5, 15 D4
part B pins: 8 GND (power), 16 VCC (power)

## 74HCT251N
designator U?, comment 8-input multiplexer; 3-state The 74HC251; 74HCT251 is an 8-bit multiplexer with eight binary inputs (I0 to I7), three select inputs (S0 to S2) and an output enable input (OE). The select inputs select one of the eight binary inputs and route it to the complementary outputs (Y and Y). A HIGH on OE causes the outputs to assume a high-impedance OFF-state. Inputs include clamp diodes that enable the use of current limiting resistors to interface inputs to voltages in excess of VCC.    AAL Eindhoven MK
footprint SOT38
part A pins: 1 D3, 2 D2, 3 D1, 4 D0, 5 Y (hiz), 6 W (hiz), 7 !G, 9 C, 10 B, 11 A, 12 D7, 13 D6, 14 D5, 15 D4
part B pins: 8 GND (power), 16 VCC (power)

## 74HCT251PW
designator U?, comment 8-input multiplexer; 3-state The 74HC251; 74HCT251 is an 8-bit multiplexer with eight binary inputs (I0 to I7), three select inputs (S0 to S2) and an output enable input (OE). The select inputs select one of the eight binary inputs and route it to the complementary outputs (Y and Y). A HIGH on OE causes the outputs to assume a high-impedance OFF-state. Inputs include clamp diodes that enable the use of current limiting resistors to interface inputs to voltages in excess of VCC.    AAL Eindhoven MK
footprint SOT403-1
part A pins: 1 D3, 2 D2, 3 D1, 4 D0, 5 Y (hiz), 6 W (hiz), 7 !G, 9 C, 10 B, 11 A, 12 D7, 13 D6, 14 D5, 15 D4
part B pins: 8 GND (power), 16 VCC (power)

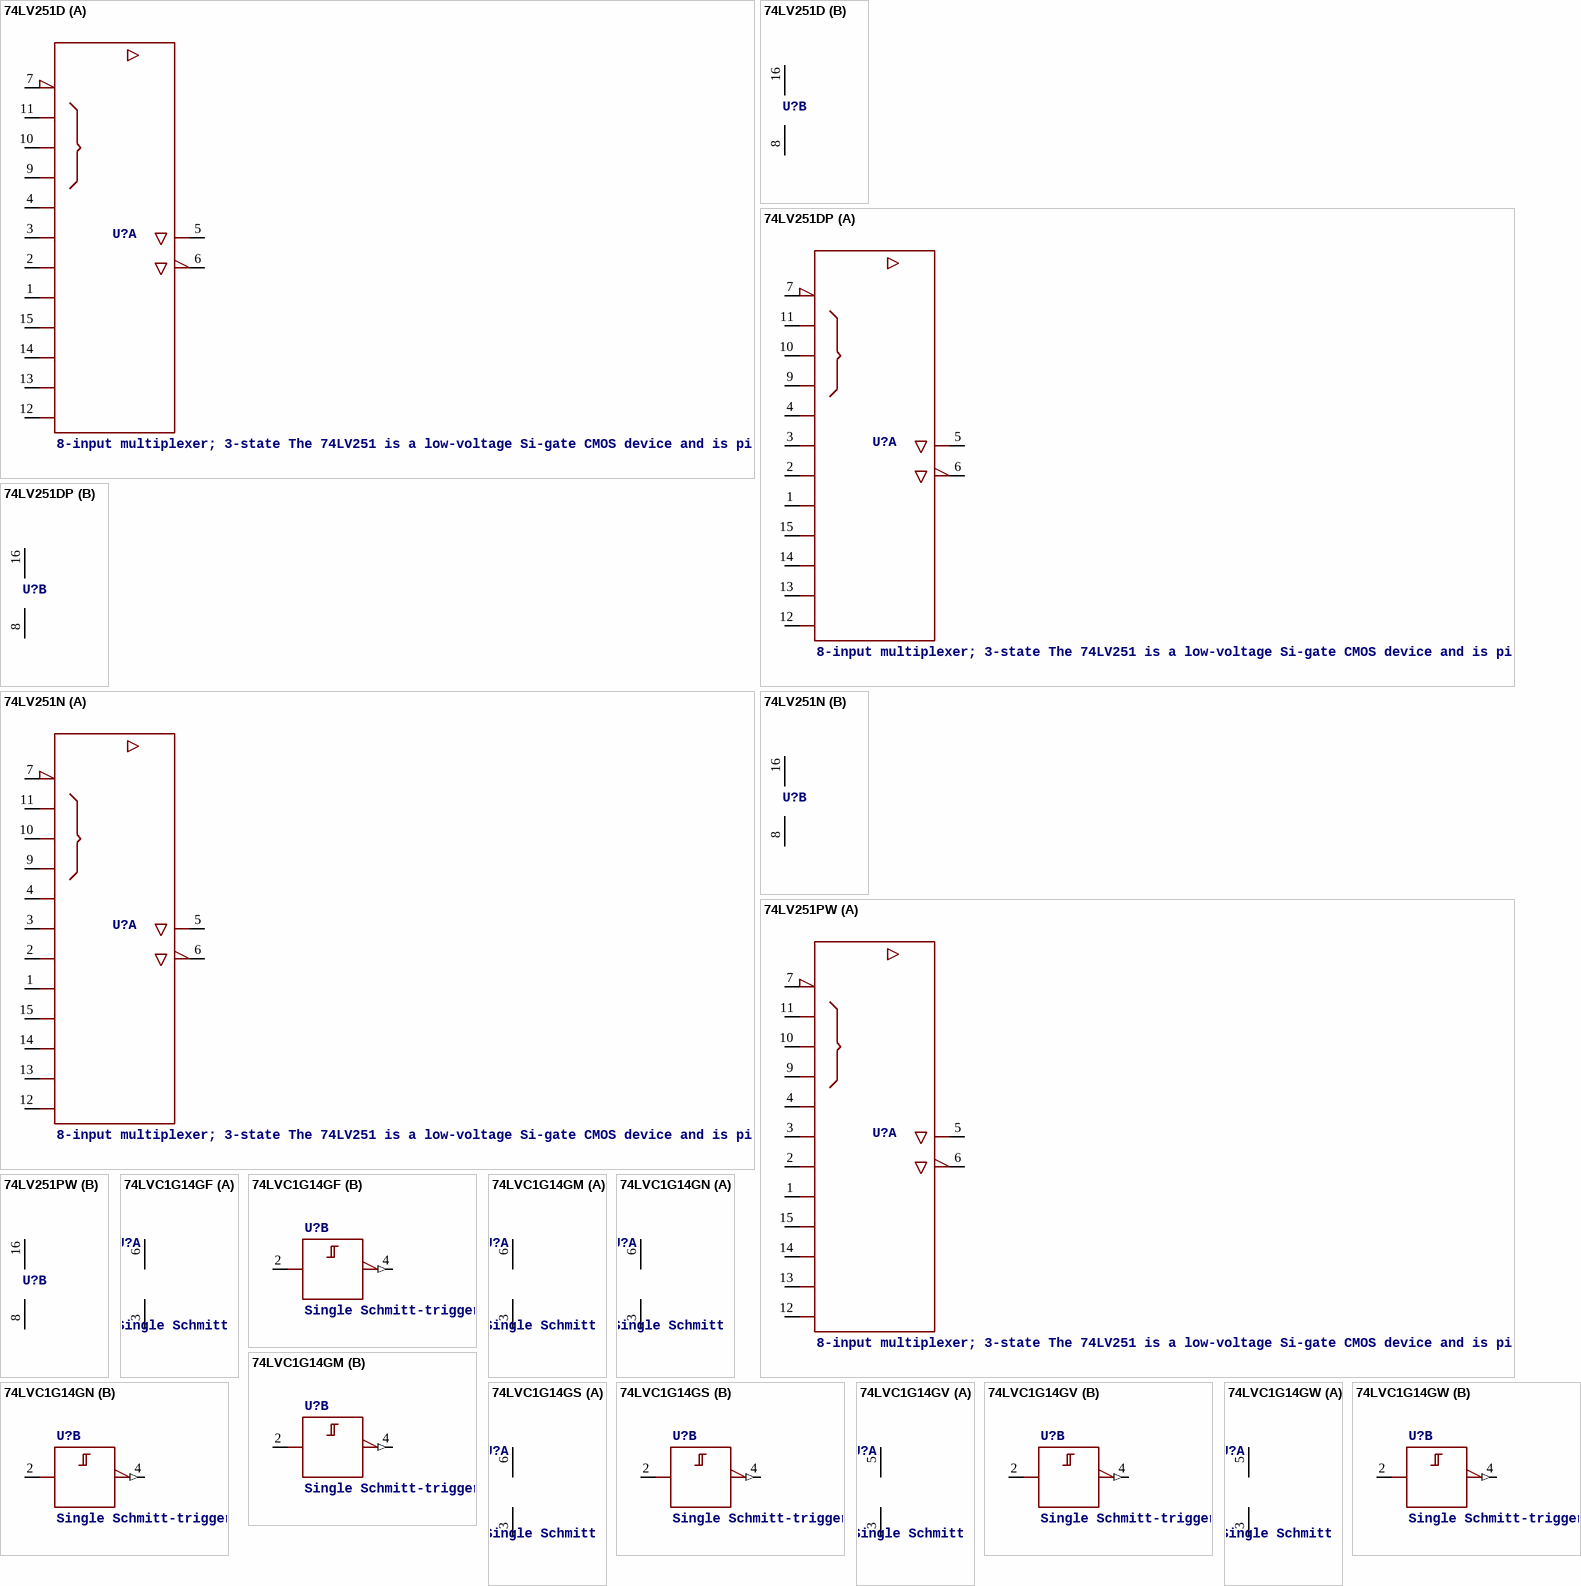
[diagram p20: symbols 74LV251D to 74LVC1G14GW]

## 74LV251D
designator U?, comment 8-input multiplexer; 3-state The 74LV251 is a low-voltage Si-gate CMOS device and is pin and function compatible with 74HC/HCT251. The 74LV251 is an 8-input multiplexer with 8 binary inputs (I0 to I7), an output enable input (OE) and three select inputs (S0, S1, S2). One of the eight binary inputs is selected by the select inputs and is routed to the outputs (Y, Y). Both outputs are in the high impedance OFF-state (Z) when the output enable input is HIGH, allowing multiplexer expansion by tying the outputs.    AAL Eindhoven MK
footprint SOT109-1
part A pins: 1 D3, 2 D2, 3 D1, 4 D0, 5 Y (hiz), 6 W (hiz), 7 !G, 9 C, 10 B, 11 A, 12 D7, 13 D6, 14 D5, 15 D4
part B pins: 8 GND (power), 16 VCC (power)

## 74LV251DP
designator U?, comment 8-input multiplexer; 3-state The 74LV251 is a low-voltage Si-gate CMOS device and is pin and function compatible with 74HC/HCT251. The 74LV251 is an 8-input multiplexer with 8 binary inputs (I0 to I7), an output enable input (OE) and three select inputs (S0, S1, S2). One of the eight binary inputs is selected by the select inputs and is routed to the outputs (Y, Y). Both outputs are in the high impedance OFF-state (Z) when the output enable input is HIGH, allowing multiplexer expansion by tying the outputs.    AAL Eindhoven MK
footprint SOT338
part A pins: 1 D3, 2 D2, 3 D1, 4 D0, 5 Y (hiz), 6 W (hiz), 7 !G, 9 C, 10 B, 11 A, 12 D7, 13 D6, 14 D5, 15 D4
part B pins: 8 GND (power), 16 VCC (power)

## 74LV251N
designator U?, comment 8-input multiplexer; 3-state The 74LV251 is a low-voltage Si-gate CMOS device and is pin and function compatible with 74HC/HCT251. The 74LV251 is an 8-input multiplexer with 8 binary inputs (I0 to I7), an output enable input (OE) and three select inputs (S0, S1, S2). One of the eight binary inputs is selected by the select inputs and is routed to the outputs (Y, Y). Both outputs are in the high impedance OFF-state (Z) when the output enable input is HIGH, allowing multiplexer expansion by tying the outputs.    AAL Eindhoven MK
footprint SOT38
part A pins: 1 D3, 2 D2, 3 D1, 4 D0, 5 Y (hiz), 6 W (hiz), 7 !G, 9 C, 10 B, 11 A, 12 D7, 13 D6, 14 D5, 15 D4
part B pins: 8 GND (power), 16 VCC (power)

## 74LV251PW
designator U?, comment 8-input multiplexer; 3-state The 74LV251 is a low-voltage Si-gate CMOS device and is pin and function compatible with 74HC/HCT251. The 74LV251 is an 8-input multiplexer with 8 binary inputs (I0 to I7), an output enable input (OE) and three select inputs (S0, S1, S2). One of the eight binary inputs is selected by the select inputs and is routed to the outputs (Y, Y). Both outputs are in the high impedance OFF-state (Z) when the output enable input is HIGH, allowing multiplexer expansion by tying the outputs.    AAL Eindhoven MK
footprint SOT403-1
part A pins: 1 D3, 2 D2, 3 D1, 4 D0, 5 Y (hiz), 6 W (hiz), 7 !G, 9 C, 10 B, 11 A, 12 D7, 13 D6, 14 D5, 15 D4
part B pins: 8 GND (power), 16 VCC (power)

## 74LVC1G14GF
designator U?, comment Single Schmitt-trigger inverter The 74LVC1G14 provides the inverting buffer function with Schmitt-trigger input. It is capable of transforming slowly changing input signals into sharply defined, jitter-free output signals. The input can be driven from either 3.3 V or 5 V devices. This feature allows the use of this device in a mixed 3.3 V and 5 V environment. Schmitt-trigger action at the input makes the circuit tolerant for slower input rise and fall time. This device is fully specified for partial power-down applications using IOFF. The IOFF circuitry disables the output, preventing the damaging backflow current through the device when it is powered down.    AAL Eindhoven MK
12NC: 9352 824 12132
footprint SOT891
part A pins: 3 GND (power), 6 VCC (power)
part B pins: 2 A, 4 Y (out)

## 74LVC1G14GM
designator U?, comment Single Schmitt-trigger inverter The 74LVC1G14 provides the inverting buffer function with Schmitt-trigger input. It is capable of transforming slowly changing input signals into sharply defined, jitter-free output signals. The input can be driven from either 3.3 V or 5 V devices. This feature allows the use of this device in a mixed 3.3 V and 5 V environment. Schmitt-trigger action at the input makes the circuit tolerant for slower input rise and fall time. This device is fully specified for partial power-down applications using IOFF. The IOFF circuitry disables the output, preventing the damaging backflow current through the device when it is powered down.    AAL Eindhoven MK
12NC: 9352 771 79115
footprint SOT886
part A pins: 3 GND (power), 6 VCC (power)
part B pins: 2 A, 4 Y (out)

## 74LVC1G14GN
designator U?, comment Single Schmitt-trigger inverter The 74LVC1G14 provides the inverting buffer function with Schmitt-trigger input. It is capable of transforming slowly changing input signals into sharply defined, jitter-free output signals. The input can be driven from either 3.3 V or 5 V devices. This feature allows the use of this device in a mixed 3.3 V and 5 V environment. Schmitt-trigger action at the input makes the circuit tolerant for slower input rise and fall time. This device is fully specified for partial power-down applications using IOFF. The IOFF circuitry disables the output, preventing the damaging backflow current through the device when it is powered down.    AAL Eindhoven MK
12NC: 9352 917 77132
footprint SOT1115
part A pins: 3 GND (power), 6 VCC (power)
part B pins: 2 A, 4 Y (out)

## 74LVC1G14GS
designator U?, comment Single Schmitt-trigger inverter The 74LVC1G14 provides the inverting buffer function with Schmitt-trigger input. It is capable of transforming slowly changing input signals into sharply defined, jitter-free output signals. The input can be driven from either 3.3 V or 5 V devices. This feature allows the use of this device in a mixed 3.3 V and 5 V environment. Schmitt-trigger action at the input makes the circuit tolerant for slower input rise and fall time. This device is fully specified for partial power-down applications using IOFF. The IOFF circuitry disables the output, preventing the damaging backflow current through the device when it is powered down.    AAL Eindhoven MK
12NC: 9352 929 03132
footprint SOT1202
part A pins: 3 GND (power), 6 VCC (power)
part B pins: 2 A, 4 Y (out)

## 74LVC1G14GV
designator U?, comment Single Schmitt-trigger inverter The 74LVC1G14 provides the inverting buffer function with Schmitt-trigger input. It is capable of transforming slowly changing input signals into sharply defined, jitter-free output signals. The input can be driven from either 3.3 V or 5 V devices. This feature allows the use of this device in a mixed 3.3 V and 5 V environment. Schmitt-trigger action at the input makes the circuit tolerant for slower input rise and fall time. This device is fully specified for partial power-down applications using IOFF. The IOFF circuitry disables the output, preventing the damaging backflow current through the device when it is powered down.    AAL Eindhoven MK
12NC: 9352 720 19125
footprint SOT753
part A pins: 3 GND (power), 5 VCC (power)
part B pins: 2 A, 4 Y (out)

## 74LVC1G14GW
designator U?, comment Single Schmitt-trigger inverter The 74LVC1G14 provides the inverting buffer function with Schmitt-trigger input. It is capable of transforming slowly changing input signals into sharply defined, jitter-free output signals. The input can be driven from either 3.3 V or 5 V devices. This feature allows the use of this device in a mixed 3.3 V and 5 V environment. Schmitt-trigger action at the input makes the circuit tolerant for slower input rise and fall time. This device is fully specified for partial power-down applications using IOFF. The IOFF circuitry disables the output, preventing the damaging backflow current through the device when it is powered down.    AAL Eindhoven MK
12NC: 9352 685 95125
footprint SOT353-1
part A pins: 3 GND (power), 5 VCC (power)
part B pins: 2 A, 4 Y (out)

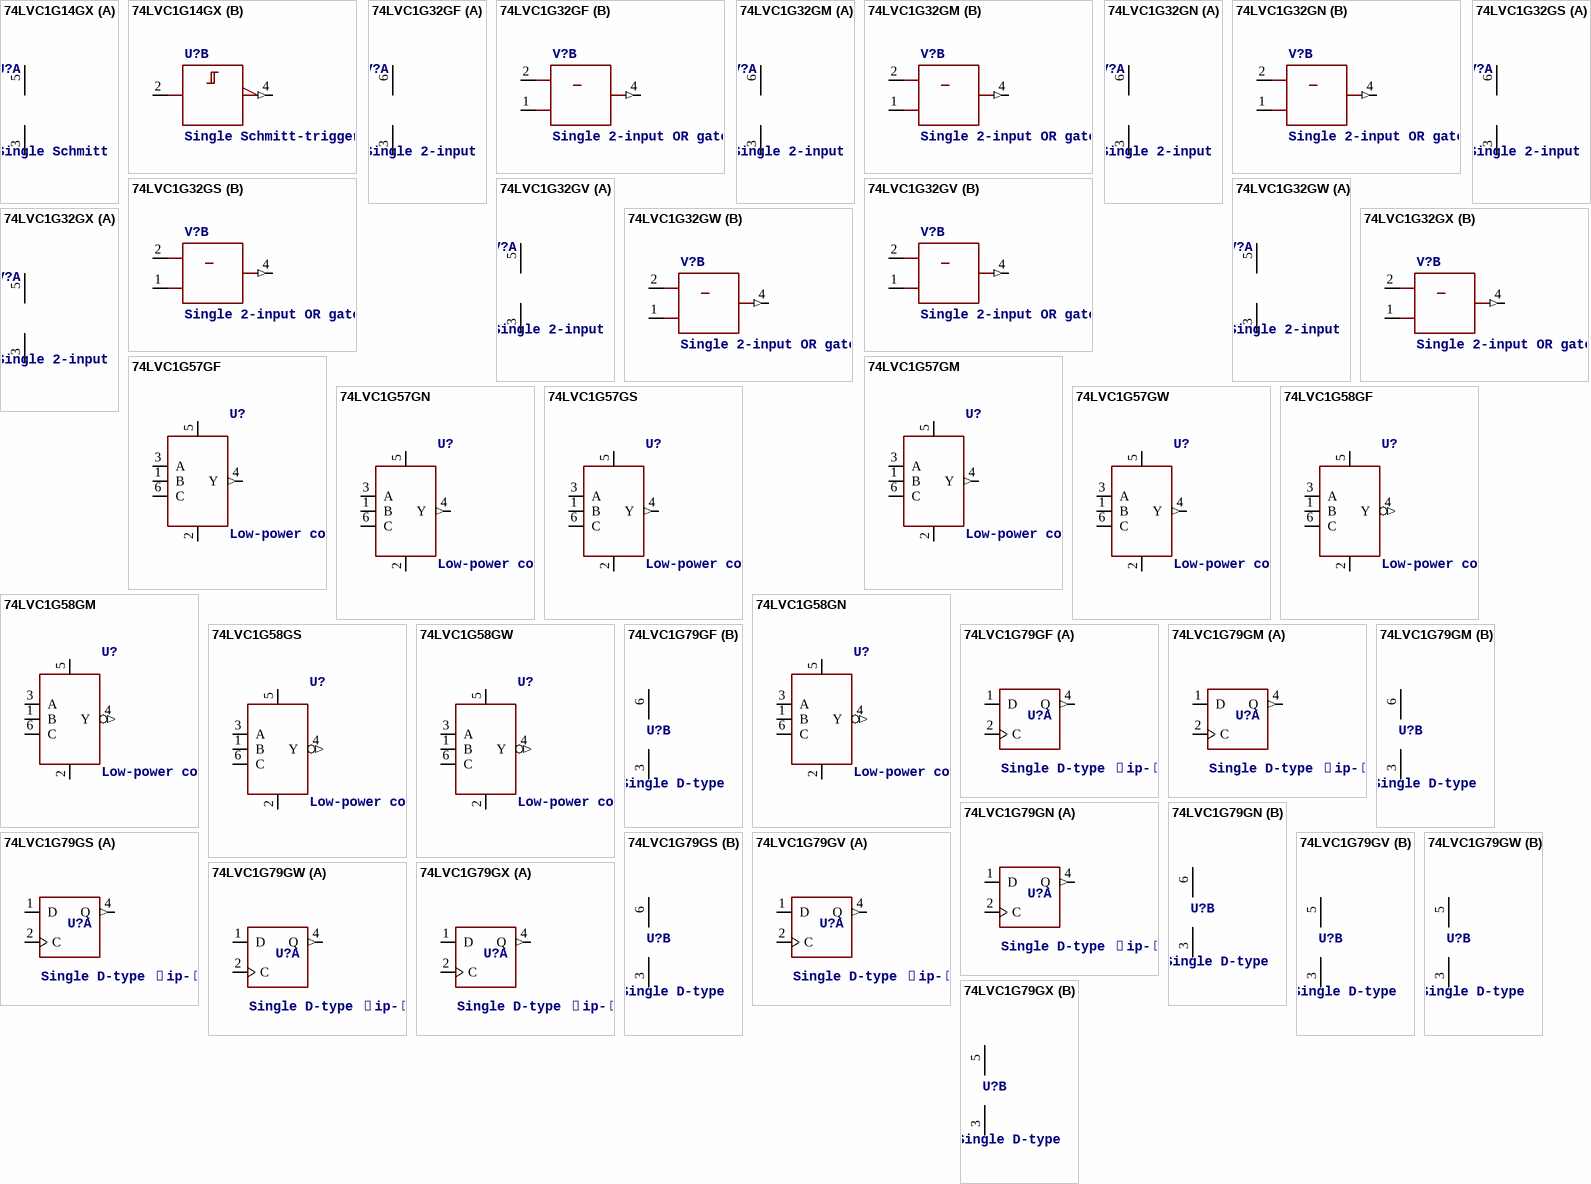
[diagram p21: symbols 74LVC1G14GX to 74LVC1G79GX]

## 74LVC1G14GX
designator U?, comment Single Schmitt-trigger inverter The 74LVC1G14 provides the inverting buffer function with Schmitt-trigger input. It is capable of transforming slowly changing input signals into sharply defined, jitter-free output signals. The input can be driven from either 3.3 V or 5 V devices. This feature allows the use of this device in a mixed 3.3 V and 5 V environment. Schmitt-trigger action at the input makes the circuit tolerant for slower input rise and fall time. This device is fully specified for partial power-down applications using IOFF. The IOFF circuitry disables the output, preventing the damaging backflow current through the device when it is powered down.    AAL Eindhoven MK
footprint SOT1226
part A pins: 3 GND (power), 5 VCC (power)
part B pins: 2 A, 4 Y (out)

## 74LVC1G32GF
designator V?, comment Single 2-input OR gate  The 74LVC1G32 provides one 2-input OR function. Inputs can be driven from either 3.3 V or 5 V devices. This feature allows the use of these devices as translators in mixed 3.3 V and 5 V applications. Schmitt trigger action at all inputs makes the circuit tolerant of slower input rise and fall time. This device is fully specified for partial power-down applications using IOFF. The IOFF circuitry disables the output, preventing the damaging backflow current through the device when it is powered down.   AAL Eindhoven MK
footprint SOT891
part A pins: 3 GND (power), 6 VCC (power)
part B pins: 1 B, 2 A, 4 Y (out)

## 74LVC1G32GM
designator V?, comment Single 2-input OR gate  The 74LVC1G32 provides one 2-input OR function. Inputs can be driven from either 3.3 V or 5 V devices. This feature allows the use of these devices as translators in mixed 3.3 V and 5 V applications. Schmitt trigger action at all inputs makes the circuit tolerant of slower input rise and fall time. This device is fully specified for partial power-down applications using IOFF. The IOFF circuitry disables the output, preventing the damaging backflow current through the device when it is powered down.   AAL Eindhoven MK
footprint SOT886
part A pins: 3 GND (power), 6 VCC (power)
part B pins: 1 B, 2 A, 4 Y (out)

## 74LVC1G32GN
designator V?, comment Single 2-input OR gate  The 74LVC1G32 provides one 2-input OR function. Inputs can be driven from either 3.3 V or 5 V devices. This feature allows the use of these devices as translators in mixed 3.3 V and 5 V applications. Schmitt trigger action at all inputs makes the circuit tolerant of slower input rise and fall time. This device is fully specified for partial power-down applications using IOFF. The IOFF circuitry disables the output, preventing the damaging backflow current through the device when it is powered down.   AAL Eindhoven MK
footprint SOT1115
part A pins: 3 GND (power), 6 VCC (power)
part B pins: 1 B, 2 A, 4 Y (out)

## 74LVC1G32GS
designator V?, comment Single 2-input OR gate  The 74LVC1G32 provides one 2-input OR function. Inputs can be driven from either 3.3 V or 5 V devices. This feature allows the use of these devices as translators in mixed 3.3 V and 5 V applications. Schmitt trigger action at all inputs makes the circuit tolerant of slower input rise and fall time. This device is fully specified for partial power-down applications using IOFF. The IOFF circuitry disables the output, preventing the damaging backflow current through the device when it is powered down.   AAL Eindhoven MK
footprint SOT1202
part A pins: 3 GND (power), 6 VCC (power)
part B pins: 1 B, 2 A, 4 Y (out)

## 74LVC1G32GV
designator V?, comment Single 2-input OR gate  The 74LVC1G32 provides one 2-input OR function. Inputs can be driven from either 3.3 V or 5 V devices. This feature allows the use of these devices as translators in mixed 3.3 V and 5 V applications. Schmitt trigger action at all inputs makes the circuit tolerant of slower input rise and fall time. This device is fully specified for partial power-down applications using IOFF. The IOFF circuitry disables the output, preventing the damaging backflow current through the device when it is powered down.   AAL Eindhoven MK
footprint SOT753
part A pins: 3 GND (power), 5 VCC (power)
part B pins: 1 B, 2 A, 4 Y (out)

## 74LVC1G32GW
designator V?, comment Single 2-input OR gate  The 74LVC1G32 provides one 2-input OR function. Inputs can be driven from either 3.3 V or 5 V devices. This feature allows the use of these devices as translators in mixed 3.3 V and 5 V applications. Schmitt trigger action at all inputs makes the circuit tolerant of slower input rise and fall time. This device is fully specified for partial power-down applications using IOFF. The IOFF circuitry disables the output, preventing the damaging backflow current through the device when it is powered down.   AAL Eindhoven MK
footprint SOT353-1
part A pins: 3 GND (power), 5 VCC (power)
part B pins: 1 B, 2 A, 4 Y (out)

## 74LVC1G32GX
designator V?, comment Single 2-input OR gate  The 74LVC1G32 provides one 2-input OR function. Inputs can be driven from either 3.3 V or 5 V devices. This feature allows the use of these devices as translators in mixed 3.3 V and 5 V applications. Schmitt trigger action at all inputs makes the circuit tolerant of slower input rise and fall time. This device is fully specified for partial power-down applications using IOFF. The IOFF circuitry disables the output, preventing the damaging backflow current through the device when it is powered down.   AAL Eindhoven MK
footprint SOT1226
part A pins: 3 GND (power), 5 VCC (power)
part B pins: 1 B, 2 A, 4 Y (out)

## 74LVC1G57GF
designator U?, comment Low-power configurable multiple function gate The 74LVC1G57 provides configurable multiple functions. The output state is determined by eight patterns of 3-bit input. The user can choose the logic functions AND, OR, NAND, NOR, XNOR, inverter and buffer. All inputs can be connected to VCC or GND. Inputs can be driven from either 3.3 V or 5 V devices. This feature allows the use of this device in a mixed 3.3 V and 5 V environment. This device is fully specified for partial power-down applications using IOFF. The IOFF circuitry disables the output, preventing the damaging backflow current through the device when it is powered down. All inputs (A, B and C) are Schmitt trigger inputs. They are capable of transforming slowly changing input signals into sharply defined, jitter-free output signals.   AAL Eindhoven MK
12NC: 9352 813 28132
footprint SOT891
pins: 1 B, 2 GND (power), 3 A, 4 Y (out), 5 VCC (power), 6 C

## 74LVC1G57GM
designator U?, comment Low-power configurable multiple function gate The 74LVC1G57 provides configurable multiple functions. The output state is determined by eight patterns of 3-bit input. The user can choose the logic functions AND, OR, NAND, NOR, XNOR, inverter and buffer. All inputs can be connected to VCC or GND. Inputs can be driven from either 3.3 V or 5 V devices. This feature allows the use of this device in a mixed 3.3 V and 5 V environment. This device is fully specified for partial power-down applications using IOFF. The IOFF circuitry disables the output, preventing the damaging backflow current through the device when it is powered down. All inputs (A, B and C) are Schmitt trigger inputs. They are capable of transforming slowly changing input signals into sharply defined, jitter-free output signals.   AAL Eindhoven MK
12NC: 9352 799 58132
footprint SOT886
pins: 1 B, 2 GND (power), 3 A, 4 Y (out), 5 VCC (power), 6 C

## 74LVC1G57GN
designator U?, comment Low-power configurable multiple function gate The 74LVC1G57 provides configurable multiple functions. The output state is determined by eight patterns of 3-bit input. The user can choose the logic functions AND, OR, NAND, NOR, XNOR, inverter and buffer. All inputs can be connected to VCC or GND. Inputs can be driven from either 3.3 V or 5 V devices. This feature allows the use of this device in a mixed 3.3 V and 5 V environment. This device is fully specified for partial power-down applications using IOFF. The IOFF circuitry disables the output, preventing the damaging backflow current through the device when it is powered down. All inputs (A, B and C) are Schmitt trigger inputs. They are capable of transforming slowly changing input signals into sharply defined, jitter-free output signals.   AAL Eindhoven MK
I2C: 9352 917 43132
footprint SOT1115
pins: 1 B, 2 GND (power), 3 A, 4 Y (out), 5 VCC (power), 6 C

## 74LVC1G57GS
designator U?, comment Low-power configurable multiple function gate The 74LVC1G57 provides configurable multiple functions. The output state is determined by eight patterns of 3-bit input. The user can choose the logic functions AND, OR, NAND, NOR, XNOR, inverter and buffer. All inputs can be connected to VCC or GND. Inputs can be driven from either 3.3 V or 5 V devices. This feature allows the use of this device in a mixed 3.3 V and 5 V environment. This device is fully specified for partial power-down applications using IOFF. The IOFF circuitry disables the output, preventing the damaging backflow current through the device when it is powered down. All inputs (A, B and C) are Schmitt trigger inputs. They are capable of transforming slowly changing input signals into sharply defined, jitter-free output signals.   AAL Eindhoven MK
12NC: 9352 928 67132
footprint SOT1202
pins: 1 B, 2 GND (power), 3 A, 4 Y (out), 5 VCC (power), 6 C

## 74LVC1G57GW
designator U?, comment Low-power configurable multiple function gate The 74LVC1G57 provides configurable multiple functions. The output state is determined by eight patterns of 3-bit input. The user can choose the logic functions AND, OR, NAND, NOR, XNOR, inverter and buffer. All inputs can be connected to VCC or GND. Inputs can be driven from either 3.3 V or 5 V devices. This feature allows the use of this device in a mixed 3.3 V and 5 V environment. This device is fully specified for partial power-down applications using IOFF. The IOFF circuitry disables the output, preventing the damaging backflow current through the device when it is powered down. All inputs (A, B and C) are Schmitt trigger inputs. They are capable of transforming slowly changing input signals into sharply defined, jitter-free output signals.   AAL Eindhoven MK
12NC: 9352 799 57125
footprint SOT363
pins: 1 B, 2 GND (power), 3 A, 4 Y (out), 5 VCC (power), 6 C

## 74LVC1G58GF
designator U?, comment Low-power configurable multiple function gate The 74LVC1G58 provides configurable multiple functions. The output state is determined by eight patterns of 3-bit input. The user can choose the logic functions AND, OR, NAND, NOR, XOR, inverter and buffer. All inputs can be connected to VCC or GND. Inputs can be driven from either 3.3 V or 5 V devices. This feature allows the use of this device in a mixed 3.3 V and 5 V environment. This device is fully specified for partial power-down applications using IOFF. The IOFF circuitry disables the output, preventing the damaging backflow current through the device when it is powered down. All inputs (A, B and C) are Schmitt trigger inputs. They are capable of transforming slowly changing input signals into sharply defined, jitter-free output signals.   AAL Eindhoven MK
12NC: 9352 813 29132
footprint SOT891
pins: 1 B, 2 GND (power), 3 A, 4 Y (out), 5 VCC (power), 6 C

## 74LVC1G58GM
designator U?, comment Low-power configurable multiple function gate The 74LVC1G58 provides configurable multiple functions. The output state is determined by eight patterns of 3-bit input. The user can choose the logic functions AND, OR, NAND, NOR, XOR, inverter and buffer. All inputs can be connected to VCC or GND. Inputs can be driven from either 3.3 V or 5 V devices. This feature allows the use of this device in a mixed 3.3 V and 5 V environment. This device is fully specified for partial power-down applications using IOFF. The IOFF circuitry disables the output, preventing the damaging backflow current through the device when it is powered down. All inputs (A, B and C) are Schmitt trigger inputs. They are capable of transforming slowly changing input signals into sharply defined, jitter-free output signals.   AAL Eindhoven MK
12NC: 9352 799 61132
footprint SOT886
pins: 1 B, 2 GND (power), 3 A, 4 Y (out), 5 VCC (power), 6 C

## 74LVC1G58GN
designator U?, comment Low-power configurable multiple function gate The 74LVC1G58 provides configurable multiple functions. The output state is determined by eight patterns of 3-bit input. The user can choose the logic functions AND, OR, NAND, NOR, XOR, inverter and buffer. All inputs can be connected to VCC or GND. Inputs can be driven from either 3.3 V or 5 V devices. This feature allows the use of this device in a mixed 3.3 V and 5 V environment. This device is fully specified for partial power-down applications using IOFF. The IOFF circuitry disables the output, preventing the damaging backflow current through the device when it is powered down. All inputs (A, B and C) are Schmitt trigger inputs. They are capable of transforming slowly changing input signals into sharply defined, jitter-free output signals.   AAL Eindhoven MK
I2C: 9352 917 44132
footprint SOT1115
pins: 1 B, 2 GND (power), 3 A, 4 Y (out), 5 VCC (power), 6 C